# EAGLE library part EVB-PICO-GND-SEPARATED (library RpiPicoEVB)
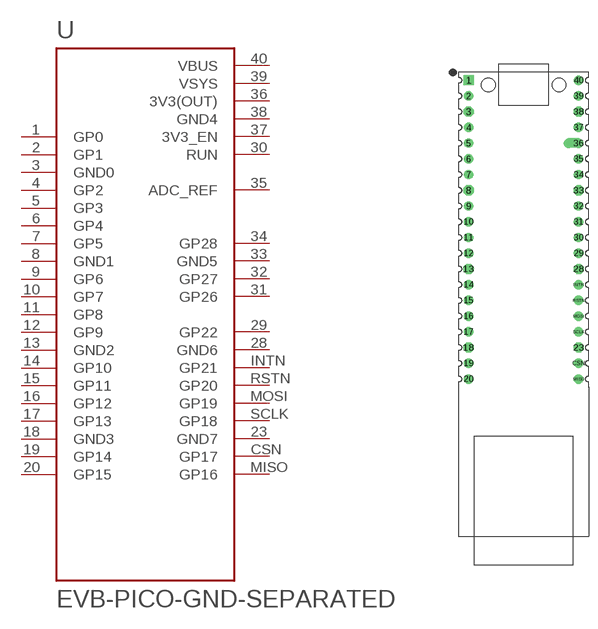
[diagram p3: symbol with the pads of W5500-EVB-PICO-TH; footprint W5500-EVB-PICO-TH]

Designator prefix -

## EVB-PICO-GND-SEPARATEDDIP  [W5500-EVB-PICO-TH]
1  GP0
2  GP1
3  GND0  pwr
4  GP2
5  GP3
6  GP4
7  GP5
8  GND1  pwr
9  GP6
10  GP7
11  GP8
12  GP9
13  GND2  pwr
14  GP10
15  GP11
16  GP12
17  GP13
18  GND3  pwr
19  GP14
20  GP15
23  GND7  pwr
28  GND6  pwr
29  GP22
30  RUN  in
31  GP26
32  GP27
33  GND5  pwr
34  GP28
35  ADC_REF  in
36  3V3(OUT)  pwr
37  3V3_EN  in
38  GND4  pwr
39  VSYS  pwr
40  VBUS  pwr
CSN  GP17
INTN  GP21
MISO  GP16
MOSI  GP19
RSTN  GP20
SCLK  GP18

## Footprint W5500-EVB-PICO-TH (pad centres in mm)
drill 1.1 square: 1 -8.89,24.13
drill 1: 2 -8.89,21.59; 4 -8.89,16.51; 5 -8.89,13.97; 6 -8.89,11.43; 7 -8.89,8.89; 9 -8.89,3.81; 10 -8.89,1.27; 11 -8.89,-1.27; 12 -8.89,-3.81; 14 -8.89,-8.89; 15 -8.89,-11.43; 16 -8.89,-13.97; 17 -8.89,-16.51; 19 -8.89,-21.59; 20 -8.89,-24.13; 29 8.89,-3.81; 30 8.89,-1.27; 31 8.89,1.27; 32 8.89,3.81; 34 8.89,8.89; 35 8.89,11.43; 37 8.89,16.51; 39 8.89,21.59; 40 8.89,24.13; CSN 8.89,-21.59; INTN 8.89,-8.89; MISO 8.89,-24.13; MOSI 8.89,-13.97; RSTN 8.89,-11.43; SCLK 8.89,-16.51
drill 1.1 octagon: 3 -8.89,19.05; 8 -8.89,6.35; 13 -8.89,-6.35; 18 -8.89,-19.05; 23 8.89,-19.05; 28 8.89,-6.35; 33 8.89,6.35; 38 8.89,19.05
drill 1.1 offset: 36 8.89,13.97
hole 2.2 at -5.7,23.4
hole 2.2 at 5.7,23.4